# Altium schematic symbol library SCH - CURRENT SHUNT AMPLIFIER - TI INA180B DBV.SCHLIB: 1 symbol
Pins are listed as number, name and electrical type; pins without a type are passive.

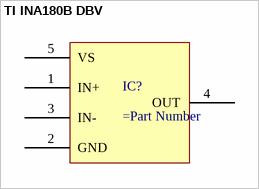
[diagram p0: symbol TI INA180B DBV]

## TI INA180B DBV
designator IC?
pins: 1 IN+, 2 GND, 3 IN-, 4 OUT, 5 VS